# EAGLE library part LT1161CNPBF (library LT1161NC)
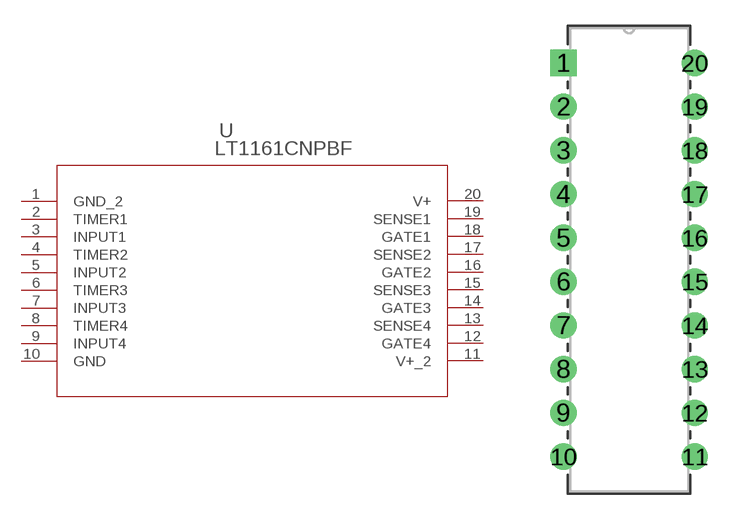
[diagram p0: symbol with the pads of PDIP-20_N; footprint PDIP-20_N]

Designator prefix U

## LT1161CNPBF (MANUFACTURER_PART_NUMBER: LT1161CN#PBF; VENDOR: Linear Technology)  [PDIP-20_N]
1  GND_2  pwr
2  TIMER1  pas
3  INPUT1  in
4  TIMER2  pas
5  INPUT2  in
6  TIMER3  pas
7  INPUT3  in
8  TIMER4  pas
9  INPUT4  in
10  GND  pwr
11  V+_2  pwr
12  GATE4  pas
13  SENSE4  pas
14  GATE3  pas
15  SENSE3  pas
16  GATE2  pas
17  SENSE2  pas
18  GATE1  pas
19  SENSE1  pas
20  V+  pwr

## Footprint PDIP-20_N (pad centres in mm)
drill 0.813 pad 1.524 square: 1 -7.62,22.86
drill 0.813 pad 1.524: 2 -7.62,20.32; 3 -7.62,17.78; 4 -7.62,15.24; 5 -7.62,12.7; 6 -7.62,10.16; 7 -7.62,7.62; 8 -7.62,5.08; 9 -7.62,2.54; 10 -7.62,0; 11 0,0; 12 0,2.54; 13 0,5.08; 14 0,7.62; 15 0,10.16; 16 0,12.7; 17 0,15.24; 18 0,17.78; 19 0,20.32; 20 0,22.86